# Altium schematic symbol library ADN8810ACPZ.SchLib: 2 symbols
Pins are listed as number, name and electrical type; pins without a type are passive.

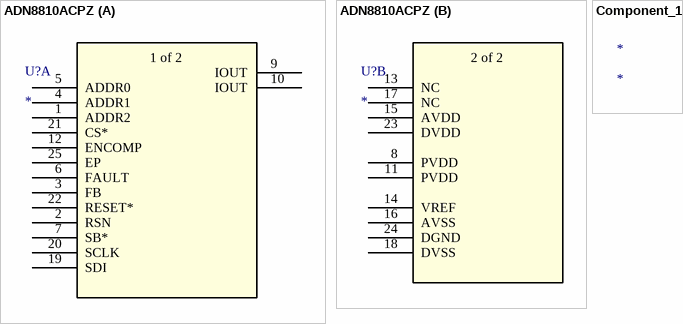
[diagram p0: symbols ADN8810ACPZ to Component_1]

## ADN8810ACPZ
designator U?
No Description Available; Mfr_Name: Analog Devices Inc; RefDes: RefDes; Type: Type
footprint CP_24_1_ADI
part A pins: 1 ADDR2, 2 RSN, 3 FB, 4 ADDR1, 5 ADDR0, 6 FAULT, 7 SB*, 9 IOUT, 10 IOUT, 12 ENCOMP, 19 SDI, 20 SCLK, 21 CS*, 22 RESET*, 25 EP
part B pins: 8 PVDD (power), 11 PVDD (power), 13 NC, 14 VREF, 15 AVDD (power), 16 AVSS, 17 NC, 18 DVSS, 23 DVDD (power), 24 DGND
part A text: 1 of 2
part B text: 2 of 2

## Component_1
designator *